# Altium schematic symbol library Laytec.SchLib: 2 symbols
Pins are listed as number, name and electrical type; pins without a type are passive.

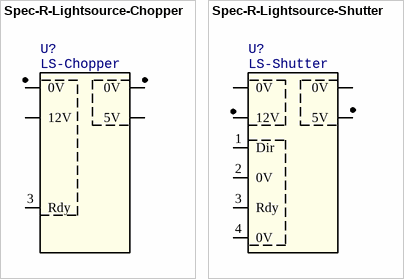
[diagram p0: symbols Spec-R-Lightsource-Chopper to Spec-R-Lightsource-Shutter]

## Spec-R-Lightsource-Chopper
designator U?, comment LS-Chopper
Lightsource with Shutter and Pulse Out, 5V + 12V; Manufacturer 1: Laytec; Manufacturer Part Number 1: ***; Value: LS-Chopper
pins: 1 0V (power), 2 12V (power), 3 Rdy, 7 0V (power), 8 5V (power)

## Spec-R-Lightsource-Shutter
designator U?, comment LS-Shutter
Lightsource with Shutter and Pulse Out, 5V + 12V; Manufacturer 1: Laytec; Manufacturer Part Number 1: ***; Value: LS-Shutter
pins: 1 Dir, 2 0V, 3 Rdy, 4 0V, 5 0V (power), 6 12V (power), 7 0V (power), 8 5V (power)